# Altium schematic symbol library SCH - ADC - AKM AK5558VN.Schlib: 1 symbol
Pins are listed as number, name and electrical type; pins without a type are passive.

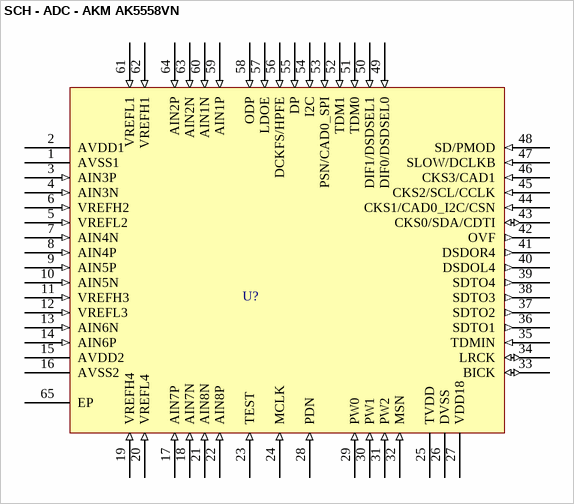
[diagram p0: symbol SCH - ADC - AKM AK5558VN]

## SCH - ADC - AKM AK5558VN
designator U?
footprint QFN50P900X900X100-64N (QFN, 64-Leads, Body 9,1x9,1mm (max), Pitch 0,50mm, IPC Medium Density)
pins: 1 AVSS1 (power) "Analog Ground Pin(AIN1-4)", 2 AVDD1 (power) "Analog Power Supply Pin(AIN1-4), 4.5-5.5 V", 3 AIN3P (in) "Channel 3 Positive Input Pin", 4 AIN3N (in) "Channel 3 Negative Input Pin", 5 VREFL2 (in) "ADC Low Level Voltage Reference Input Pin", 6 VREFH2 (in) "ADC High Level Voltage Reference Input Pin", 7 AIN4N (in) "Channel 4 Negative Input Pin", 8 AIN4P (in) "Channel 4 Positive Input Pin", 9 AIN5P (in) "Channel 5 Positive Input Pin", 10 AIN5N (in) "Channel 5 Negative Input Pin", 11 VREFH3 (in) "ADC High Level Voltage Reference Input Pin", 12 VREFL3 (in) "ADC Low Level Voltage Reference Input Pin", 13 AIN6N (in) "Channel 6 Negative Input Pin", 14 AIN6P (in) "Channel 6 Positive Input Pin", 15 AVDD2 (power) "Analog Power Supply Pin(AIN5-8), 4.5-5.5 V", 16 AVSS2 (power) "Analog Ground Pin(AIN5-8)", 17 AIN7P (in) "Channel 7 Positive Input Pin", 18 AIN7N (in) "Channel 7 Negative Input Pin", 19 VREFH4 (in) "ADC High Level Voltage Reference Input Pin", 20 VREFL4 (in) "ADC Low Level Voltage Reference Input Pin", 21 AIN8N (in) "Channel 8 Negative Input Pin", 22 AIN8P (in) "Channel 8 Positive Input Pin", 23 TEST (in) "TEST Enable Pin. This pin is pull down by 100kO internally", 24 MCLK (in) "Master Clock Input Pin", 25 TVDD (power) "Digital I/O Buffers and LDO Power Supply Pin  1.7-1.98 V (LDOE pin= “L”) or 3.0-3.6 V (LDOE pin= “H”).", 26 DVSS (power) "Digital Ground Pin", 27 VDD18 (power) "LDO Stabilization Capacitor Connect Pin. (LDOE pin= “H”)", 28 PDN (in) "Reset & Power Down Pin  “L”: Reset & Power down, “H” : Normal operation", 29 PW0 (in) "Power Management Pin, Channel Summation select Pin", 30 PW1 (in) "Power Management Pin, Channel Summation select Pin", 31 PW2 (in) "Power Management Pin, Channel Summation select Pin", 32 MSN (in) "Master/Slave Select Pin  “L”: Slave Mode, “H” : Master Mode", 33 BICK (io) "Audio Serial Data Clock Input Pin in PCM & Slave Mode.  This pin is pulled down by 100 kO internally  -  O  Audio Serial Data Clock Output Pin in PCM & Master Mode  This pin is pulled down by 100 kO internally", 34 LRCK (io) "Channel Clock Input Pin in PCM & Slave Mode  This pin is pulled down by 100 kO internally  -  O  Channel Clock Output Pin in PCM & Master Mode  This pin is pulled down by 100 kO internally", 35 TDMIN (in) "TDM Data Input Pin in PCM Mode  This pin is pulled down by 100 kO internally", 36 SDTO1 (out) "Audio Serial Data Output Pin for AIN1 and AIN2 in PCM Mode", 37 SDTO2 (out) "Audio Serial Data Output Pin for AIN3 and AIN4 in PCM Mode", 38 SDTO3 (out) "Audio Serial Data Output Pin for AIN5 and AIN6 in PCM Mode", 39 SDTO4 (out) "Audio Serial Data Output Pin for AIN7 and AIN8 in PCM Mode", 40 DSDOL4 (out) "Audio Serial Data Output Pin for AIN7 in DSD Mode", 41 DSDOR4 (out) "Audio Serial Data Output Pin for AIN8 in DSD Mode", 42 OVF (out) "Analog Input Over Flow Flag Output Pin", 43 CKS0/SDA/CDTI (io) "Clock Mode Select Pin / Control Data I/O Pin in I2C Bus Serial Control Mode / Control Data Input Pin in 3-wire Serial Control Mode", 44 CKS1/CAD0_I2C/CSN (in) "Clock Mode Select Pin / Chip Address 0 Pin in I2C Bus Serial Control Mode / Chip Select Pin in 3-wire Serial Control Mode", 45 CKS2/SCL/CCLK (in) "Clock Mode Select Pin / Chip Address 0 Pin in I2C Bus Serial Control Mode / Chip Select Pin in 3-wire Serial Control Mode", 46 CKS3/CAD1 (in) "Clock Mode Select Pin / Chip Address 1 Pin in I2C Bus or 3-wire Serial Control Mode", 47 SLOW/DCLKB (in) "Slow Roll-OFF Digital Filter Select Pin in PCM Mode / Polarity of DCLK Pin in DSD Mode", 48 SD/PMOD (in) "Short Delay Digital Filter Select Pin in PCM Mode / DSD Phase Modulation Mode Select Pin in DSD Mode", 49 DIF0/DSDSEL0 (in) "Audio Data Format Select Pin in PCM Mode  “L”: MSB justified, “H”: I2S / DSD Sampling Rate Control Pin in DSD Mode", 50 DIF1/DSDSEL1 (in) "Audio Data Format Select Pin in PCM Mode  “L”: 24-bit Mode, “H”: 32-bit Mode / DSD Sampling Rate Control Pin in DSD Mode", 51 TDM0 (in) "TDM I/F Format Select Pin  * This pin must be fixed to “L” when using DSD mode.", 52 TDM1 (in) "TDM I/F Format Select Pin  * This pin must be fixed to “L” when using DSD mode.", 53 PSN/CAD0_SPI (in) "Control Mode Select Pin (I2C pin = “H”)  “L”:I2C Bus Serial Control Mode, “H” :Parallel Control Mode / Chip Address 0 Pin in 3-wire Serial Control Mode (I2C pin = “L”)", 54 I2C (in) "Control Mode Select Pin  “L”: 3-wire Serial Control Mode  “H”: I2C Bus Serial Control Mode or Parallel Control Mode", 55 DP (in) "DSD Mode Enable Pin  “L”: PCM Mode, “H”: DSD Mode", 56 DCKFS/HPFE (in) "High Pass Filter Enable Pin  “L”: HPF Disable, “H”: HPF Enable / Master Clock Frequency Select at DSD Mode (DSD Only)", 57 LDOE (in) "LDO Enable Pin  “L”: LDO Disable, “H”: LDO Enable  This pin is pulled down by 100 kO internally.", 58 ODP (in) "Optimal Data Placement Mode Select Pin", 59 AIN1P (in) "Channel 1 Positive Input Pin", 60 AIN1N (in) "Channel 1 Negative Input Pin", 61 VREFL1 (in) "ADC Low Level Voltage Reference Input Pin", 62 VREFH1 (in) "ADC High Level Voltage Reference Input Pin", 63 AIN2N (in) "Channel 2 Negative Input Pin", 64 AIN2P (in) "Channel 2 Positive Input Pin", 65 EP